# Altium schematic symbol library LED_Indication_Discrete.SchLib: 3 symbols
Pins are listed as number, name and electrical type; pins without a type are passive.

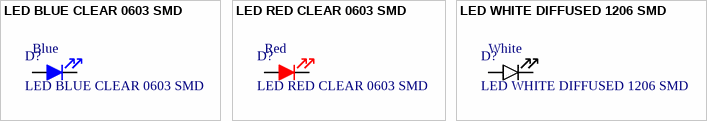
[diagram p0: symbols LED BLUE CLEAR 0603 SMD to LED WHITE DIFFUSED 1206 SMD]

## LED BLUE CLEAR 0603 SMD
designator D?  Color: Blue
Manufacturer: Vishay Lite-On; Manufacturer Part Number: LTST-C191TBKT; Lens Color: Colorless; Viewing Angle: 130°; Lens Style: Flat,Diffused,Colorless,Rectangular,Clear; Forward Voltage: 3.8V; Luminous Intensity: 180mcd; Dominant Wavelength: 475nm; Test Current: 20mA; Number of LEDs: 1; Wavelength: 468nm; Power Dissipation: 76mW; Reverse Voltage: 5V; Max Power Dissipation: 75mW; Lens Size: 0.8mm; Supplier: Digi-Key; Supplier Part Number: 160-1647-1-ND; RoHS: Yes; Category: LEDs; Stock: 471262; Pricing: 1=0.33, 10=0.262, 100=0.1178, 500=0.1064, 1000=0.0874, 2000=0.076 (USD); Mounting Technology: Surface Mount; Case/Package: 0603; Pins: 2; Case Code (Metric): 1608; Case Code (Imperial): 0603; Min Operating Temperature: -20°C; Max Operating Temperature: 80°C; Packaging: Tape and Reel; Series: -; Forward Current: 20mA; Package Quantity: 1; Lens Transparency: Clear; Illumination Color: Blue; Number of Elements: 1; Length: 0.8mm; Width: 0.8mm; Height: 0.65mm; Depth: 1.6mm; Radiation Hardening: No; RoHS Compliant: Yes; Lead Free: Lead Free; ComponentLink1URL: https://datasheet.ciiva.com/11774/0900766b80dc02b4-11774413.pdf?src-supplier=Rs; ComponentLink1Description: https://datasheet.ciiva.com/11774/0900766b80dc02b4-11774413.pdf?src-supplier=Rs; ComponentLink2URL: https://datasheet.ciiva.com/2110/ltst-c191tbkt-2110256.pdf?src-supplier=Digi-Key; ComponentLink2Description: https://datasheet.ciiva.com/2110/ltst-c191tbkt-2110256.pdf?src-supplier=Digi-Key; ComponentLink3URL: https://datasheet.ciiva.com/19465/2047945-19465673.pdf?src-supplier=Jameco; ComponentLink3Description: https://datasheet.ciiva.com/19465/2047945-19465673.pdf?src-supplier=Jameco; ComponentLink4URL: https://datasheet.ciiva.com/12400/lite-on-ltst-c191tbkt-187207-12400737.pdf?src-supplier=Mouser; ComponentLink4Description: https://datasheet.ciiva.com/12400/lite-on-ltst-c191tbkt-187207-12400737.pdf?src-supplier=Mouser; ComponentLink5URL: https://datasheet.ciiva.com/16444/ltst-c191tbkt-16444756.pdf?src-supplier=Future+Electronics; ComponentLink5Description: https://datasheet.ciiva.com/16444/ltst-c191tbkt-16444756.pdf?src-supplier=Future+Electronics; ComponentLink6URL: https://datasheet.ciiva.com/15117/getdatasheetpartid-133342-15117680.pdf?src-supplier=Verical; ComponentLink6Description: https://datasheet.ciiva.com/15117/getdatasheetpartid-133342-15117680.pdf?src-supplier=Verical; ComponentLink7URL: https://datasheet.ciiva.com/2110/s-110-ltst-c191tbkt-2110257.pdf?src-supplier=Digi-Key; ComponentLink7Description: https://datasheet.ciiva.com/2110/s-110-ltst-c191tbkt-2110257.pdf?src-supplier=Digi-Key
footprint LED BLUE CLEAR 0603 SMD
pins: A Anode, K Cathode

## LED RED CLEAR 0603 SMD
designator D?  Color: Red
Manufacturer: Vishay Lite-On; Manufacturer Part Number: LTST-C190KRKT; Lens Color: Colorless; Luminous Intensity: 54mcd; Forward Current: 30mA; Viewing Angle: 130°; Forward Voltage: 2.4V; Lens Style: Flat,Diffused,Colorless,Rectangular,Clear; Dominant Wavelength: 631nm; Test Current: 20mA; Number of LEDs: 1; Wavelength: 639nm; Power Rating: 75mW; Reverse Voltage: 5V; Lens Size: 0.8mm; Supplier: Digi-Key; Supplier Part Number: 160-1436-1-ND; RoHS: Yes; Category: LEDs; Stock: 474266; Pricing: 1=0.24, 10=0.132, 100=0.0611, 500=0.0564, 1000=0.04418, 2000=0.04324 (USD); Mounting Technology: Surface Mount; Case/Package: 0603; Pins: 2; Case Code (Metric): 1608; Case Code (Imperial): 0603; Min Operating Temperature: -55°C; Max Operating Temperature: 85°C; Packaging: Tape and Reel; Package Quantity: 3000; Lens Transparency: Clear; Series: -; Illumination Color: Red; Number of Elements: 1; Power Dissipation: 75mW; Length: 1.6mm; Width: 0.8mm; Height: 0.9mm; Depth: 0.8mm; Radiation Hardening: No; RoHS Compliant: Yes; Lead Free: Lead Free; ComponentLink1URL: https://datasheet.ciiva.com/11774/0900766b80dc02a9-11774043.pdf?src-supplier=Rs; ComponentLink1Description: https://datasheet.ciiva.com/11774/0900766b80dc02a9-11774043.pdf?src-supplier=Rs; ComponentLink2URL: https://datasheet.ciiva.com/19482/1260381-19482354.pdf?src-supplier=Jameco; ComponentLink2Description: https://datasheet.ciiva.com/19482/1260381-19482354.pdf?src-supplier=Jameco; ComponentLink3URL: https://datasheet.ciiva.com/12403/100-ltst-c190krkt-59805-12403895.pdf?src-supplier=Mouser; ComponentLink3Description: https://datasheet.ciiva.com/12403/100-ltst-c190krkt-59805-12403895.pdf?src-supplier=Mouser; ComponentLink4URL: https://datasheet.ciiva.com/16427/ltst-c190krkt-16427674.pdf?src-supplier=Future+Electronics; ComponentLink4Description: https://datasheet.ciiva.com/16427/ltst-c190krkt-16427674.pdf?src-supplier=Future+Electronics; ComponentLink5URL: https://datasheet.ciiva.com/15117/getdatasheetpartid-57395-15117240.pdf?src-supplier=Verical; ComponentLink5Description: https://datasheet.ciiva.com/15117/getdatasheetpartid-57395-15117240.pdf?src-supplier=Verical; ComponentLink6URL: https://datasheet.ciiva.com/2109/s-110-ltst-c190krkt-2109992.pdf?src-supplier=Digi-Key; ComponentLink6Description: https://datasheet.ciiva.com/2109/s-110-ltst-c190krkt-2109992.pdf?src-supplier=Digi-Key; ComponentLink7URL: https://datasheet.ciiva.com/2109/s-110-ltst-c190krkt-2109991.pdf?src-supplier=Digi-Key; ComponentLink7Description: https://datasheet.ciiva.com/2109/s-110-ltst-c190krkt-2109991.pdf?src-supplier=Digi-Key; ComponentLink8URL: https://datasheet.ciiva.com/2109/s-110-ltst-c190krkt-2109993.pdf?src-supplier=Digi-Key; ComponentLink8Description: https://datasheet.ciiva.com/2109/s-110-ltst-c190krkt-2109993.pdf?src-supplier=Digi-Key; ComponentLink9URL: https://datasheet.ciiva.com/26937/getdatasheetpartid-631582-26937958.pdf?src-supplier=Verical; ComponentLink9Description: https://datasheet.ciiva.com/26937/getdatasheetpartid-631582-26937958.pdf?src-supplier=Verical
footprint LED RED CLEAR 0603 SMD
pins: A Anode, K Cathode

## LED WHITE DIFFUSED 1206 SMD
designator D?  Color: White
SM1206 Series White 140° Water Clear 450 mcd 3.3 V 1206 Surface Mount LED; Manufacturer: Bivar; Manufacturer Part Number: SM1206UWC; Forward Current: 20mA; Forward Voltage: 3.3V; Power Rating: 100mW; Luminous Intensity: 450mcd; Lens Style: Flat,Clear; Lens Size: 1.6mm; Supplier: Digi-Key; Supplier Part Number: 492-2291-1-ND; RoHS: Yes; Category: LEDs; Stock: 847; Pricing: 1=1.82, 10=1.151, 100=0.8518, 500=0.7827, 1000=0.64457 (USD); Mounting Technology: Surface Mount; Case/Package: 1206; Case Code (Imperial): 1206; Lens Color: White; Case Code (Metric): 3016; Min Operating Temperature: -30°C; Max Operating Temperature: 80°C; Illumination Color: White; Packaging: Tape and Reel; Viewing Angle: 140°; Package Quantity: 3000; Lens Transparency: Diffused; Test Current: 20mA; Series: -; Length: 3.2mm; Width: 1.6mm; Height: 1.1mm; RoHS Compliant: Yes; Lead Free: Lead Free; ComponentLink1URL: https://datasheet.ciiva.com/4691/sm1206uwc-63068-4691076.pdf?src-supplier=Mouser; ComponentLink1Description: https://datasheet.ciiva.com/4691/sm1206uwc-63068-4691076.pdf?src-supplier=Mouser; ComponentLink2URL: https://datasheet.ciiva.com/16487/sm1206uwc-16487191.pdf?src-supplier=Future+Electronics; ComponentLink2Description: https://datasheet.ciiva.com/16487/sm1206uwc-16487191.pdf?src-supplier=Future+Electronics; ComponentLink3URL: https://datasheet.ciiva.com/2118/sm1206uwc-2118934.pdf?src-supplier=Digi-Key; ComponentLink3Description: https://datasheet.ciiva.com/2118/sm1206uwc-2118934.pdf?src-supplier=Digi-Key
footprint LED WHITE DIFFUSED 1206 SMD
pins: A Anode, K Cathode